# Altium schematic symbol library SSQ-106-02-G-S-RA.SchLib: 1 symbol
Pins are listed as number, name and electrical type; pins without a type are passive.

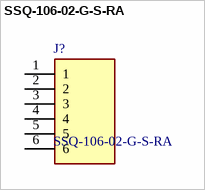
[diagram p0: symbol SSQ-106-02-G-S-RA]

## SSQ-106-02-G-S-RA
designator J?
Samtec SSQ Series 2.54mm 6 Way 1 Row Right Angle PCB Socket Through Hole Board to Board; Geometry.Height: 2.41mm; Mouser Part Number: 200-SSQ10602GSRA; Mouser Price/Stock: https://www.mouser.co.uk/ProductDetail/Samtec/SSQ-106-02-G-S-RA?qs=rU5fayqh%252BE34S8VhbDAmgg%3D%3D; Manufacturer_Name: SAMTEC; Manufacturer_Part_Number: SSQ-106-02-G-S-RA; Datasheet Link: http://suddendocs.samtec.com/catalog_english/ssq_th.pdf
footprint RHDRRA6W64P254_1X6_1575X851X241P
pins: 1, 2, 3, 4, 5, 6